# Altium schematic symbol library lm_lib.SchLib: 5 symbols
Pins are listed as number, name and electrical type; pins without a type are passive.

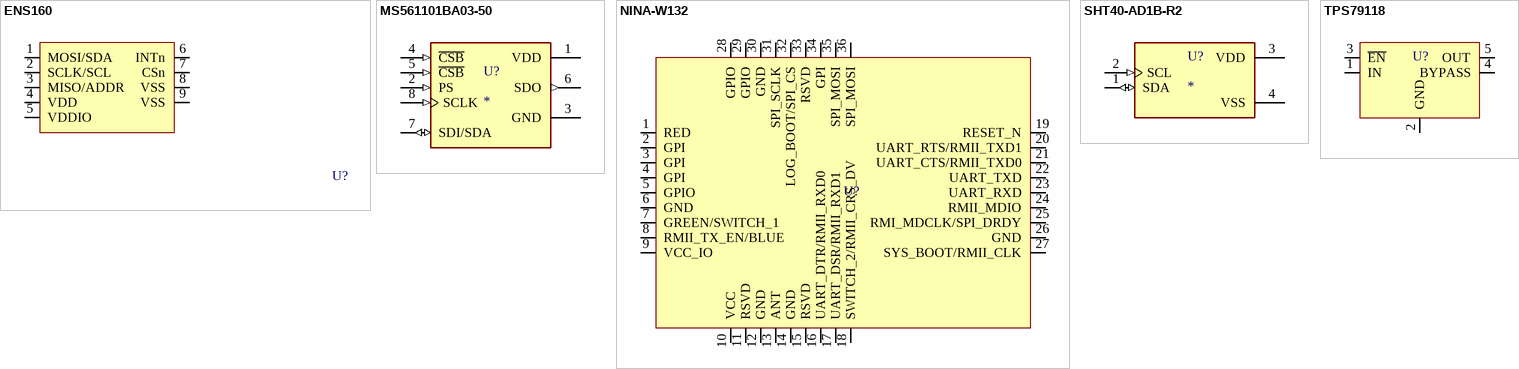
[diagram p0: symbols ENS160 to TPS79118]

## ENS160
designator U?  (value not drawn)
footprint ENS160
pins: 1 MOSI/SDA, 2 SCLK/SCL, 3 MISO/ADDR, 4 VDD, 5 VDDIO, 6 INTn, 7 CSn, 8 VSS, 9 VSS

## MS561101BA03-50
designator U?
Pressure Sensor 1.44V to 3.6V 0.01bar to 1.2bar Absolute 8-Pin QFN T/R; MF: TE Connectivity; MP: MS561101BA03-50; Package: SMD-8 TE Connectivity; Value: *; TE_purchase_URL: https://www.te.com/usa-en/product-MS561101BA03-50.html?te_bu=Cor&te_type=disp&te_campaign=seda_glo_cor-seda-global-disp-prtnr-fy19-seda-model-bom-cta_sma-317_1&elqCampaignId=32493; EU_RoHS_Compliance: Compliant; Availability: Unavailable; SnapEDA_Link: https://www.snapeda.com/parts/MS561101BA03-50/TE%20Connectivity%20ALCOSWITCH%20Switches/view-part/213247/?ref=snap; Price: None
footprint SON125P500X300X100-8N
pins: 1 VDD (power), 2 PS (in), 3 GND (power), 4 ~{CSB} (in), 5 ~{CSB} (in), 6 SDO (out), 7 SDI/SDA (io), 8 SCLK (in)

## NINA-W132
designator U?  (value not drawn)
footprint XCVR_NINA-W102
pins: 1 RED, 2 GPI, 3 GPI, 4 GPI, 5 GPIO, 6 GND, 7 GREEN/SWITCH_1, 8 RMII_TX_EN/BLUE, 9 VCC_IO, 10 VCC, 11 RSVD, 12 GND, 13 ANT, 14 GND, 15 RSVD, 16 UART_DTR/RMII_RXD0, 17 UART_DSR/RMII_RXD1, 18 SWITCH_2/RMII_CRS_DV, 19 RESET_N, 20 UART_RTS/RMII_TXD1, 21 UART_CTS/RMII_TXD0, 22 UART_TXD, 23 UART_RXD, 24 RMII_MDIO, 25 RMI_MDCLK/SPI_DRDY, 26 GND, 27 SYS_BOOT/RMII_CLK, 28 GPIO, 29 GPIO, 30 GND, 31 SPI_SCLK, 32 LOG_BOOT/SPI_CS, 33 RSVD, 34 GPI, 35 SPI_MOSI, 36 SPI_MOSI

## SHT40-AD1B-R2
designator U?
Humidity Temperature Sensor 0 ~ 100% RH Digital Â±1.8% RH Surface Mount; MP: SHT40-AD1B-R2; MF: Sensirion; Availability: In Stock; Price: None; Package: WDFN-4 Sensirion; Value: *; SnapEDA_Link: https://www.snapeda.com/parts/SHT40-AD1B-R2/Sensirion/view-part/5161667/?ref=snap; Check_prices: https://www.snapeda.com/parts/SHT40-AD1B-R2/Sensirion/view-part/5161667/?ref=eda; Purchase-URL: https://pricing.snapeda.com/search/part/SHT40-AD1B-R2/?ref=eda
footprint XDCR_SHT40-AD1B-R2
pins: 1 SDA (io), 2 SCL (in), 3 VDD (power), 4 VSS (power)

## TPS79118
designator U?  (value not drawn)
LDO Voltage Regulator
footprint SOT95P280X145-5N
pins: 1 IN, 2 GND, 3 ~{EN}, 4 BYPASS, 5 OUT